# EAGLE library part ACT8865 (library Active_Semi-ACT8865)
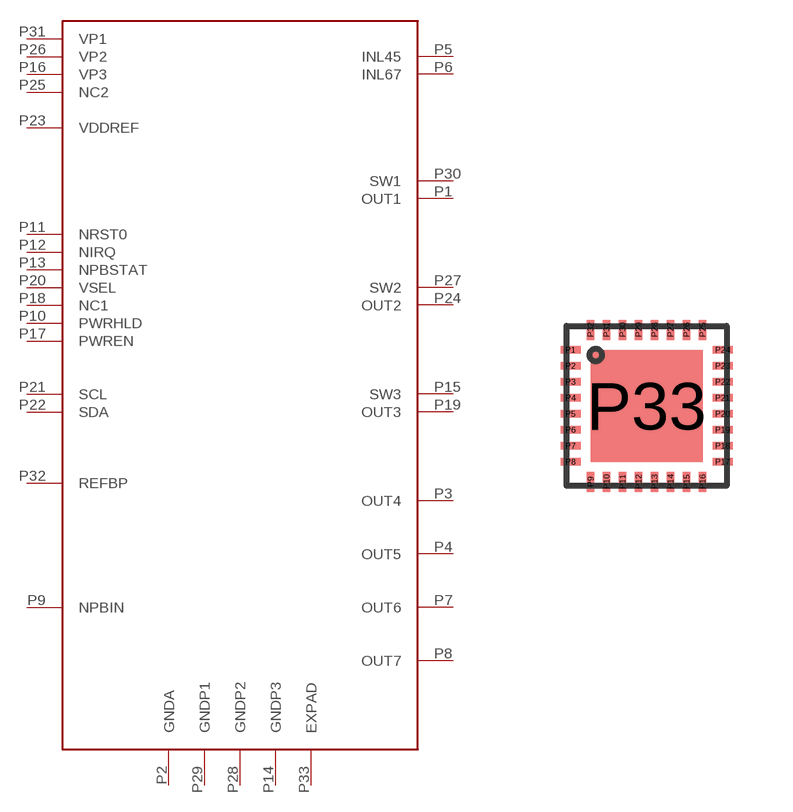
[diagram p0: symbol with the pads of TQFN44-32; footprint TQFN44-32]

Designator prefix -

## ACT8865  [TQFN44-32]
P1  OUT1
P2  GNDA
P3  OUT4
P4  OUT5
P5  INL45
P6  INL67
P7  OUT6
P8  OUT7
P9  NPBIN
P10  PWRHLD
P11  NRST0
P12  NIRQ
P13  NPBSTAT
P14  GNDP3
P15  SW3
P16  VP3
P17  PWREN
P18  NC1
P19  OUT3
P20  VSEL
P21  SCL
P22  SDA
P23  VDDREF
P24  OUT2
P25  NC2
P26  VP2
P27  SW2
P28  GNDP2
P29  GNDP1
P30  SW1
P31  VP1
P32  REFBP
P33  EXPAD

## Footprint TQFN44-32 (pad centres in mm)
smd 0.5 x 0.18: P1 -1.9,1.4; P2 -1.9,1; P3 -1.9,0.6; P4 -1.9,0.2; P5 -1.9,-0.2; P6 -1.9,-0.6; P7 -1.9,-1; P8 -1.9,-1.4; P17 1.9,-1.4; P18 1.9,-1; P19 1.9,-0.6; P20 1.9,-0.2; P21 1.9,0.2; P22 1.9,0.6; P23 1.9,1; P24 1.9,1.4
smd 0.18 x 0.5: P9 -1.4,-1.9; P10 -1,-1.9; P11 -0.6,-1.9; P12 -0.2,-1.9; P13 0.2,-1.9; P14 0.6,-1.9; P15 1,-1.9; P16 1.4,-1.9; P25 1.4,1.9; P26 1,1.9; P27 0.6,1.9; P28 0.2,1.9; P29 -0.2,1.9; P30 -0.6,1.9; P31 -1,1.9; P32 -1.4,1.9
smd 2.8 x 2.8: P33 0,0